# Altium footprint library LP3961EMP-3P3NOPB.PcbLib: 1 footprints
Each footprint in its own frame and in the unit in brackets; x right, y up, seen from the top. Pads: shape width x height; smd on the part's side, far side on the other; paste and mask are expansions set on the pad; w line width, h text height; cw(c..) or ccw(c..) is an arc to the next point about the centre after c.
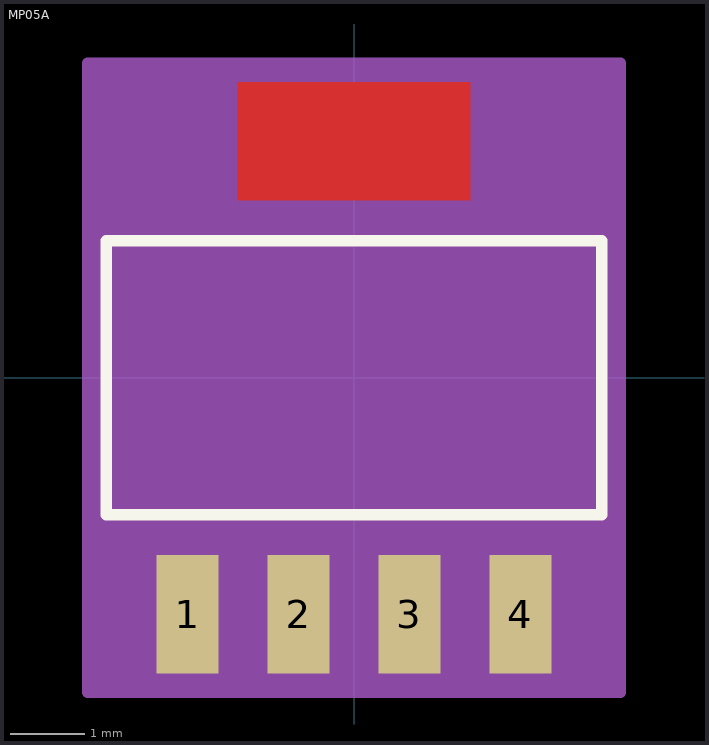
[diagram p0: the footprint, top view; thin cyan lines are the x and y axes]

## MP05A [mil]
pads (4):
  rect 33x63 smd paste-31.5 mask-31.5: 1(-88.58,-126) 2(-29.53,-126) 3(29.53,-126) 4(88.58,-126)
Top Layer:
  region: 62,94.5 62,157.5 -62,157.5 -62,94.5
Top Overlay:
  lines w6: -132,-73 132,-73 132,73 -132,73 -132,-73
  text ".Designator" at -137.5,-25 h50
Top Paste:
  region: 62,94.5 62,157.5 -62,157.5 -62,94.5
Top Solder:
  region: 63,80.5 63,171.5 -63,171.5 -63,80.5
Mechanical 13:
  lines w1: -132,-73 132,-73 132,73 -132,73 -132,-73 ; -104.08,-143.5 -104.08,-73 -73.08,-73 -73.08,-143.5 -104.08,-143.5 ; -61,73 61,73 61,143.5 -61,143.5 -61,73 ; -45.03,-143.5 -45.03,-73 -14.03,-73 -14.03,-143.5 -45.03,-143.5 ; 14.03,-143.5 14.03,-73 45.03,-73 45.03,-143.5 14.03,-143.5 ; 73.08,-143.5 73.08,-73 104.08,-73 104.08,-143.5 73.08,-143.5
  text ".Designator" at -137.5,-25 h50
Mechanical 15:
  region: 142,-167.5 -142,-167.5 -142,167.5 142,167.5
  lines w6: -142,-167.5 -142,167.5 142,167.5 142,-167.5 -142,-167.5
3D body "MP05A.step": height 71.1, standoff 0, extent -132.01,-143.5 132.01,143.5